# Altium schematic symbol library SCH - ARM CORTEX - STM STM8S903K3Ux.SchLib: 1 symbol
Pins are listed as number, name and electrical type; pins without a type are passive.

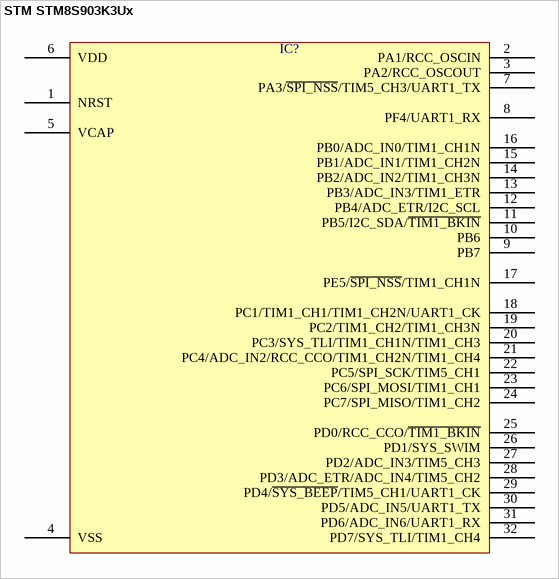
[diagram p0: symbol STM STM8S903K3Ux]

## STM STM8S903K3Ux
designator IC?  (value not drawn)
pins: 1 NRST, 2 PA1/RCC_OSCIN, 3 PA2/RCC_OSCOUT, 4 VSS, 5 VCAP, 6 VDD, 7 PA3/~{SPI_NSS}/TIM5_CH3/UART1_TX, 8 PF4/UART1_RX, 9 PB7, 10 PB6, 11 PB5/I2C_SDA/~{TIM1_BKIN}, 12 PB4/ADC_ETR/I2C_SCL, 13 PB3/ADC_IN3/TIM1_ETR, 14 PB2/ADC_IN2/TIM1_CH3N, 15 PB1/ADC_IN1/TIM1_CH2N, 16 PB0/ADC_IN0/TIM1_CH1N, 17 PE5/~{SPI_NSS}/TIM1_CH1N, 18 PC1/TIM1_CH1/TIM1_CH2N/UART1_CK, 19 PC2/TIM1_CH2/TIM1_CH3N, 20 PC3/SYS_TLI/TIM1_CH1N/TIM1_CH3, 21 PC4/ADC_IN2/RCC_CCO/TIM1_CH2N/TIM1_CH4, 22 PC5/SPI_SCK/TIM5_CH1, 23 PC6/SPI_MOSI/TIM1_CH1, 24 PC7/SPI_MISO/TIM1_CH2, 25 PD0/RCC_CCO/~{TIM1_BKIN}, 26 PD1/SYS_SWIM, 27 PD2/ADC_IN3/TIM5_CH3, 28 PD3/ADC_ETR/ADC_IN4/TIM5_CH2, 29 PD4/~{SYS_BEEP}/TIM5_CH1/UART1_CK, 30 PD5/ADC_IN5/UART1_TX, 31 PD6/ADC_IN6/UART1_RX, 32 PD7/SYS_TLI/TIM1_CH4